# EAGLE library part TLP293-4 (library IntegratedLib)
Fotoacoplador 3,75kV saida a transistor (SOIC-16 4,5mm)
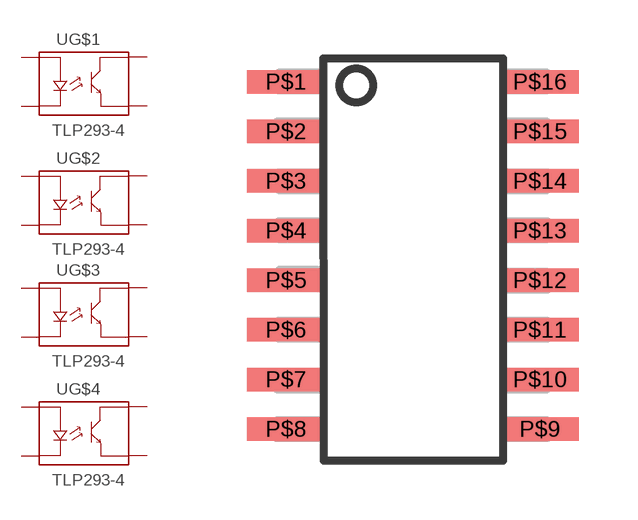
[diagram p26: symbol with the pads of SOIC-16(TSHBA); footprint SOIC-16(TSHBA)]

Designator prefix U; gates G$1=PHOTOCOUPLER G$2=PHOTOCOUPLER G$3=PHOTOCOUPLER G$4=PHOTOCOUPLER

## TLP293-4TOSHIBA (FABRICANTE: TOSHIBA; PARTNUMBER: TLP293-4(GB,E); TIPO: CIRCUITO INTEGRADO)  [SOIC-16(TSHBA)]
P$1  G$1:1
P$2  G$1:2
P$3  G$2:1
P$4  G$2:2
P$5  G$3:1
P$6  G$3:2
P$7  G$4:1
P$8  G$4:2
P$9  G$4:3
P$10  G$4:4
P$11  G$3:3
P$12  G$3:4
P$13  G$2:3
P$14  G$2:4
P$15  G$1:3
P$16  G$1:4

## Footprint SOIC-16(TSHBA) (pad centres in mm)
smd 2 x 0.6: P$1 -3.26,4.555; P$2 -3.26,3.285; P$3 -3.26,2.015; P$4 -3.26,0.745; P$5 -3.26,-0.525; P$6 -3.26,-1.795; P$7 -3.26,-3.065; P$8 -3.26,-4.335; P$9 3.24,-4.335; P$10 3.24,-3.065; P$11 3.24,-1.795; P$12 3.24,-0.525; P$13 3.24,0.745; P$14 3.24,2.015; P$15 3.24,3.285; P$16 3.24,4.555